# Altium schematic symbol library AD8610_Double.SchLib: 1 symbol
Pins are listed as number, name and electrical type; pins without a type are passive.

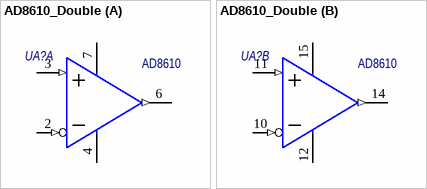
[diagram p0: symbol AD8610_Double]

## AD8610_Double
designator UA?  Наименование: AD8610  (hidden comment: AD8610_Double)
Precision, Very Low Noise, Low Input Bias Current, Wide Bandwidth JFET Operational Amplifier; Потребление, Вт: 0,03; Назначение: Wide Bandwidth JFET Operational Amplifier; ComponentLink1Description: datasheet; ComponentLink1URL: https://static.chipdip.ru/lib/150/DOC000150035.pdf
footprint MSOP-8_INV_Double
part A pins: 2 -IN (in), 3 +IN (in), 4 V- (power), 6 OUT (out), 7 V+ (power)
part B pins: 10 -IN (in), 11 +IN (in), 12 V- (power), 14 OUT (out), 15 V+ (power)